# EAGLE library part HEADER-13X1 (library Controller)
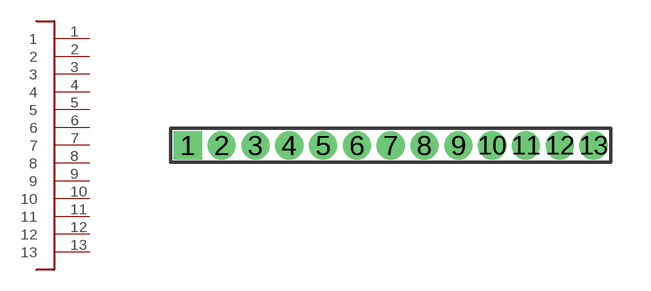
[diagram p8: symbol with the pads of HEADER-13X1-1.27; footprint HEADER-13X1-1.27]

Designator prefix -

## HEADER-13X1  [HEADER-13X1-1.27]
1  1
2  2
3  3
4  4
5  5
6  6
7  7
8  8
9  9
10  10
11  11
12  12
13  13

## Footprint HEADER-13X1-1.27 (pad centres in mm)
5 pin 0.1" header
drill 0.55 square: 1 -7.62,0
drill 0.55: 2 -6.35,0; 3 -5.08,0; 4 -3.81,0; 5 -2.54,0; 6 -1.27,0; 7 0,0; 8 1.27,0; 9 2.54,0; 10 3.81,0; 11 5.08,0; 12 6.35,0; 13 7.62,0